# Altium footprint library Ascii of Main Board V1.1.PcbLib: 40 footprints (part 1 of 3)
Each footprint in its own frame and in the unit in brackets; x right, y up, seen from the top. Pads: shape width x height; smd on the part's side, far side on the other; paste and mask are expansions set on the pad; w line width, h text height; cw(c..) or ccw(c..) is an arc to the next point about the centre after c.
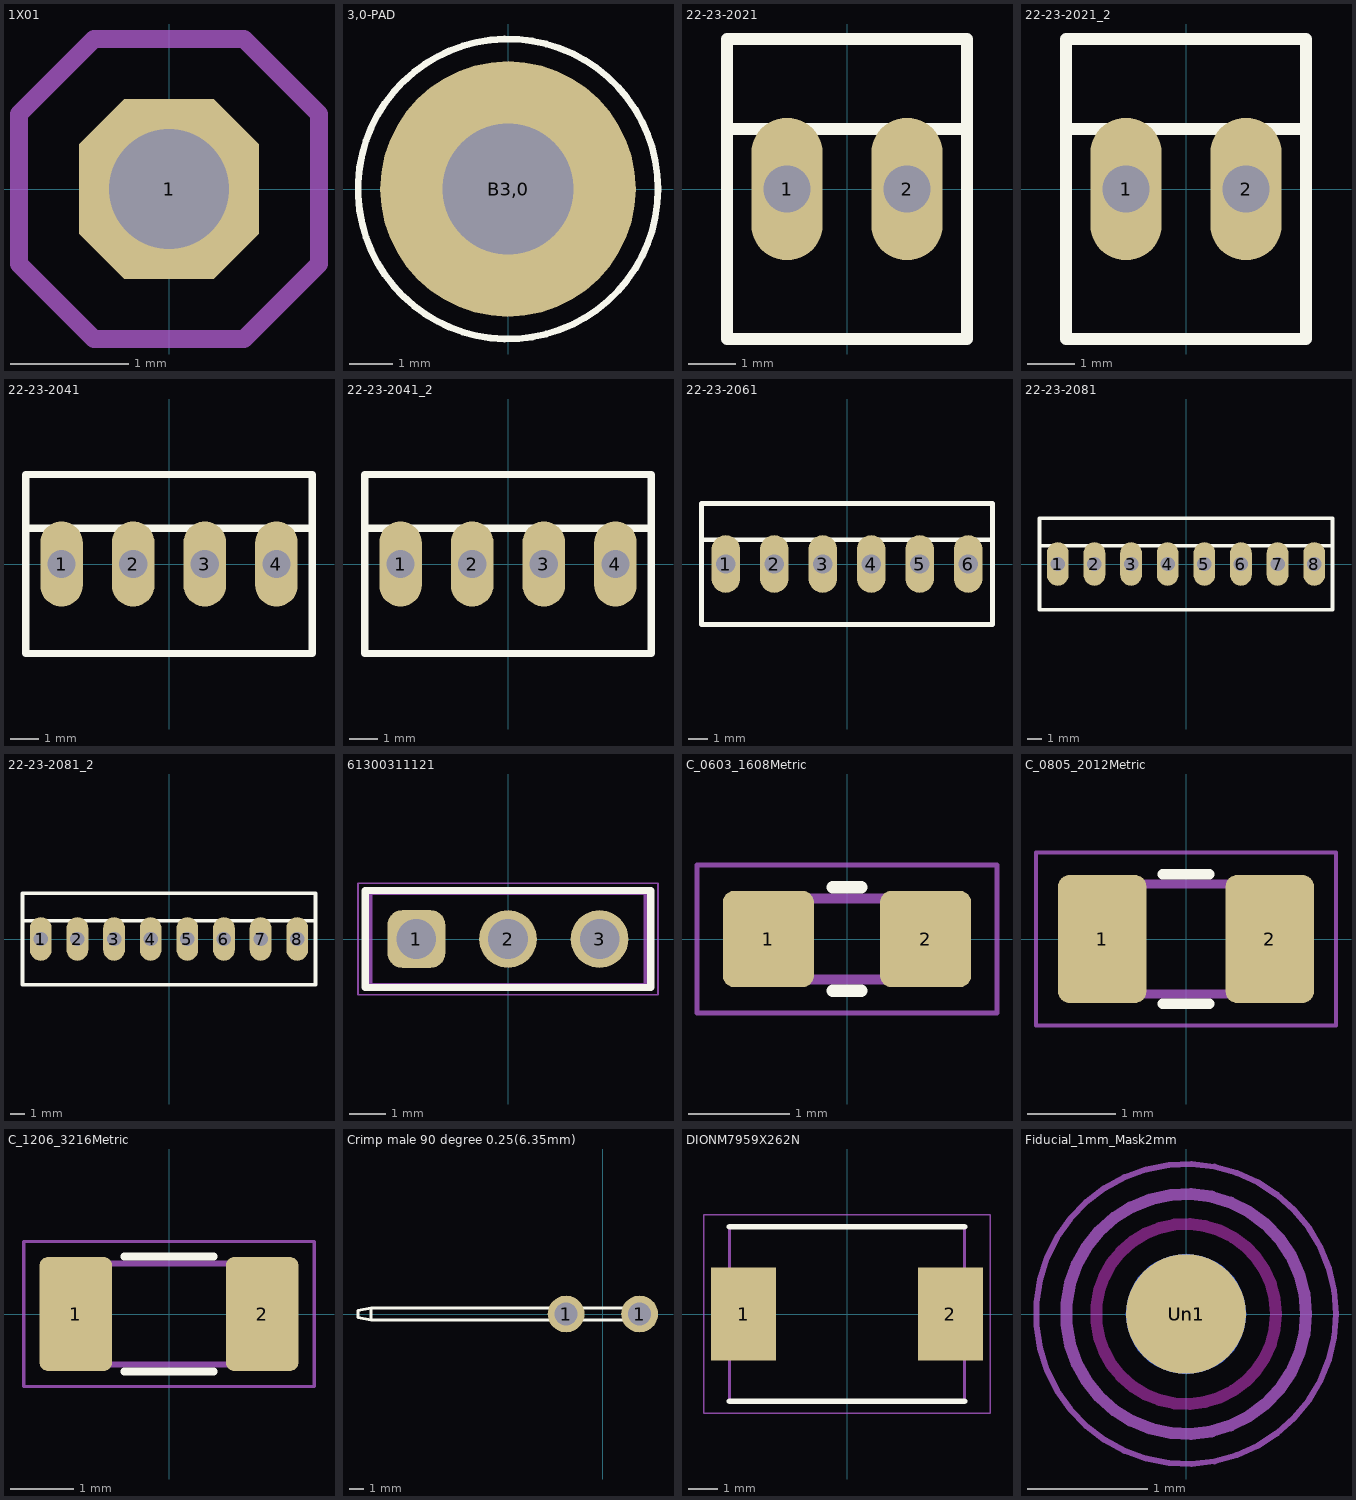
[diagram p0: the footprints below, top view; thin cyan lines are the x and y axes]

## 1X01 [mil] "1X01"
pads (1):
  oct 60x60 / inner round 0 / far side oct 60x60 hole 40: 1(0,0)
Mechanical 3:
  region: -10,-10 -10,10 10,10 10,-10
Mechanical 7:
  lines w6: -50,-25 -25,-50 25,-50 50,-25 50,25 25,50 -25,50 -50,25 -50,-25
3D body: height 50, standoff 0, extent -27.96,-27.96 27.96,27.96
3D body: height 150, standoff 0, extent -10,-10 10,10

## 3,0-PAD [mil] "3,0-PAD"
pads (1):
  round 230 / inner round 0 / far side round 230 hole 118.11: B3,0(0,0)
Top Overlay:
  circle w6: c0,0 r135
Mechanical 7:
  circle w8: c0,0 r62.99
Mechanical 19:
  text "3,0" at -50,-150 h77.5

## 22-23-2021 [mm]
pads (2):
  oval 1.508x3.016 hole 1: 1(-1.27,0) 2(1.27,0)
Top Overlay:
  lines w0.254: -2.54,1.27 2.54,1.27 ; -2.54,1.27 -2.54,3.175 2.54,3.175 2.54,1.27 ; -2.54,1.27 -2.54,-3.175 2.54,-3.175 2.54,1.27
3D body: height 10.68, standoff -3.54, extent -2.464,-3.251 2.464,3.099

## 22-23-2021_2 [mm]
pads (2):
  oval 1.508x3.016 hole 1: 1(-1.27,0) 2(1.27,0)
Top Overlay:
  lines w0.254: -2.54,1.27 -2.54,-3.175 2.54,-3.175 2.54,1.27 ; -2.54,1.27 -2.54,3.175 2.54,3.175 2.54,1.27 ; -2.54,1.27 2.54,1.27
3D body: height 10.68, standoff -3.54, extent -2.464,-3.251 2.464,3.099

## 22-23-2041 [mm]
pads (4):
  oval 1.508x3.016 hole 1: 1(-3.81,0) 2(-1.27,0) 3(1.27,0) 4(3.81,0)
Top Overlay:
  lines w0.254: -5.08,1.27 -5.08,-3.175 5.08,-3.175 5.08,1.27 ; -5.08,1.27 -5.08,3.175 5.08,3.175 5.08,1.27 ; -5.08,1.27 5.08,1.27
3D body: height 10.68, standoff -3.54, extent -5.08,-3.099 5.08,3.251

## 22-23-2041_2 [mm]
pads (4):
  oval 1.508x3.016 hole 1: 1(-3.81,0) 2(-1.27,0) 3(1.27,0) 4(3.81,0)
Top Overlay:
  lines w0.254: -5.08,1.27 5.08,1.27 ; -5.08,1.27 -5.08,3.175 5.08,3.175 5.08,1.27 ; -5.08,1.27 -5.08,-3.175 5.08,-3.175 5.08,1.27
3D body: height 10.68, standoff -3.54, extent -5.08,-3.099 5.08,3.251

## 22-23-2061 [mm]
pads (6):
  oval 1.508x3.016 hole 1: 1(-6.35,0) 2(-3.81,0) 3(-1.27,0) 4(1.27,0) 5(3.81,0) 6(6.35,0)
Top Overlay:
  lines w0.254: -7.62,1.27 7.62,1.27 ; -7.62,1.27 -7.62,3.175 7.62,3.175 7.62,1.27 ; -7.62,1.27 -7.62,-3.175 7.62,-3.175 7.62,1.27
3D body: height 10.68, standoff -3.54, extent -7.544,-3.251 7.544,3.099

## 22-23-2081 [mm]
pads (8):
  oval 1.508x3.016 hole 1: 1(-8.89,0) 2(-6.35,0) 3(-3.81,0) 4(-1.27,0) 5(1.27,0) 6(3.81,0) 7(6.35,0) 8(8.89,0)
Top Overlay:
  lines w0.254: -10.16,1.27 10.16,1.27 ; -10.16,1.27 -10.16,3.175 10.16,3.175 10.16,1.27 ; -10.16,1.27 -10.16,-3.175 10.16,-3.175 10.16,1.27
3D body: height 10.68, standoff -3.54, extent -10.16,-3.099 10.16,3.251

## 22-23-2081_2 [mm]
pads (8):
  oval 1.508x3.016 hole 1: 1(-8.89,0) 2(-6.35,0) 3(-3.81,0) 4(-1.27,0) 5(1.27,0) 6(3.81,0) 7(6.35,0) 8(8.89,0)
Top Overlay:
  lines w0.254: -10.16,1.27 -10.16,-3.175 10.16,-3.175 10.16,1.27 ; -10.16,1.27 -10.16,3.175 10.16,3.175 10.16,1.27 ; -10.16,1.27 10.16,1.27
3D body: height 10.68, standoff -3.54, extent -10.16,-3.099 10.16,3.251

## 61300311121 [mm] "Pin Header, pitch 2.54 mm, THT, Vertical, single row, 3p"
height 8.54
pads (3):
  rrect50% 1.6x1.6 hole 1.1: 1(-2.54,0)
  round 1.6 hole 1.1: 2(0,0) 3(2.54,0)
Top Overlay:
  lines w0.2: -3.96,-1.345 3.96,-1.345 3.96,1.345 -3.96,1.345 -3.96,-1.345
Top 3D Body:
  lines w0.1: -3.81,-1.27 -3.81,1.27 3.81,1.27 3.81,-1.27 -3.81,-1.27
Top Courtyard:
  lines w0.05: -0.5,0 0.5,0 ; 0,-0.5 0,0.5 ; -4.16,-1.545 -4.16,1.545 4.16,1.545 4.16,-1.545 -4.16,-1.545
Top Component Outline:
  lines w0.1: -3.81,-1.27 -3.81,1.27 3.81,1.27 3.81,-1.27 -3.81,-1.27
Top Designator:
  text ".Designator" at -7.498,-0.5 h1.5
3D body "61300311121.stp": height 8.57, standoff -2.97, extent -3.81,-1.27 3.81,1.27

## C_0603_1608Metric [mm]
pads (2):
  rrect25% 0.9x0.95 smd mask+0: 1(-0.775,0) 2(0.775,0)
Top Overlay:
  lines w0.12: -0.141,-0.51 0.141,-0.51 ; -0.141,0.51 0.141,0.51
Bottom 3D Body:
  lines w0.05: -1.48,-0.73 1.48,-0.73 1.48,0.73 -1.48,0.73 -1.48,-0.73
Mechanical 6:
  lines w0.1: -0.8,-0.4 0.8,-0.4 0.8,0.4 -0.8,0.4 -0.8,-0.4
3D body "User Library-CAPC1608X09.step": height 0.9, standoff 0, extent -0.8,-0.4 0.8,0.4

## C_0805_2012Metric [mm]
pads (2):
  rrect25% 1x1.45 smd mask+0: 1(-0.95,0) 2(0.95,0)
Top Overlay:
  lines w0.12: -0.261,-0.735 0.261,-0.735 ; -0.261,0.735 0.261,0.735
Bottom 3D Body:
  lines w0.05: -1.7,-0.98 -1.7,0.98 1.7,0.98 1.7,-0.98 -1.7,-0.98
Mechanical 6:
  lines w0.1: -1,-0.625 -1,0.625 1,0.625 1,-0.625 -1,-0.625
3D body "User Library-CAPC2013X10.step": height 1, standoff 0, extent -1,-0.625 1,0.625

## C_1206_3216Metric [mm]
pads (2):
  rrect22% 1.15x1.8 smd mask+0: 1(-1.475,0) 2(1.475,0)
Top Overlay:
  lines w0.12: -0.711,-0.91 0.711,-0.91 ; -0.711,0.91 0.711,0.91
Bottom 3D Body:
  lines w0.05: -2.3,-1.15 -2.3,1.15 2.3,1.15 2.3,-1.15 -2.3,-1.15
Mechanical 6:
  lines w0.1: -1.6,-0.8 -1.6,0.8 1.6,0.8 1.6,-0.8 -1.6,-0.8
3D body "User Library-CAPC3216X10.step": height 1, standoff 0, extent -1.6,-0.8 1.6,0.8

## Crimp male 90 degree 0.25(6.35mm) [mm] "F061.120"
pads (2):
  round 2.54 hole 1.6: 1(-2.54,0) 1(2.54,0)
Top Overlay:
  lines w0.2: 2.134,-0.406 2.134,0.406 ; -16.027,-0.406 3.15,-0.406 3.15,0.406 -16.027,0.406 ; -16.027,-0.406 -16.027,0.406 ; -16.027,-0.406 -16.916,-0.25 -16.916,0.25 -16.027,0.406
3D body: height 9.14, standoff -3.81, extent -16.966,-0.406 3.1,0.406

## DIONM7959X262N [mm]
pads (2):
  rect 2.2x3.15 smd: 1(-3.5,0) 2(3.5,0)
Top Overlay:
  lines w0.2: -3.97,-2.952 3.97,-2.952 ; -3.97,2.952 3.97,2.952
Mechanical 13:
  lines w0.1: -3.97,-2.952 -3.97,2.952 3.97,2.952 3.97,-2.952 -3.97,-2.952
Mechanical 15:
  lines w0.05: -4.85,-3.36 -4.85,3.36 4.85,3.36 4.85,-3.36 -4.85,-3.36
3D body: height 2.3, standoff -0.01, extent -3.97,-2.952 3.97,2.953

## Fiducial_1mm_Mask2mm [mm]
pads (2):
  round 1 smd mask+0.102: Un1(0,0)
  round 1 smd far side: Un1(0,0)
Keep-Out Layer:
  circle w0.1: c0,0 r0.75
Bottom 3D Body:
  circle w0.05: c0,0 r1.25
Mechanical 6:
  circle w0.1: c0,0 r1